# Altium schematic symbol library Conn,Pwr Ent,Rcpt,IEC320,Fem,PCB Mnt.Schlib: 1 symbol
Pins are listed as number, name and electrical type; pins without a type are passive.

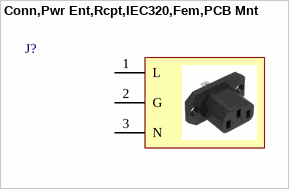
[diagram p0: symbol Conn,Pwr Ent,Rcpt,IEC320,Fem,PCB Mnt]

## Conn,Pwr Ent,Rcpt,IEC320,Fem,PCB Mnt
designator J?
pins: 1 L, 2 G, 3 N